# EAGLE library part EFM32TG108F4-QFN24T (library EFM32TG108F4-QFN24T)
ARM Microcontrollers - MCU 4k Flash 2k RAM No AES <https://componentsearchengine.com/Images/9/EFM32TG108F4-QFN24T.jpg> Source: Datasheet <https://www.silabs.com/documents/public/data-sheets/EFM32TG108.pdf>
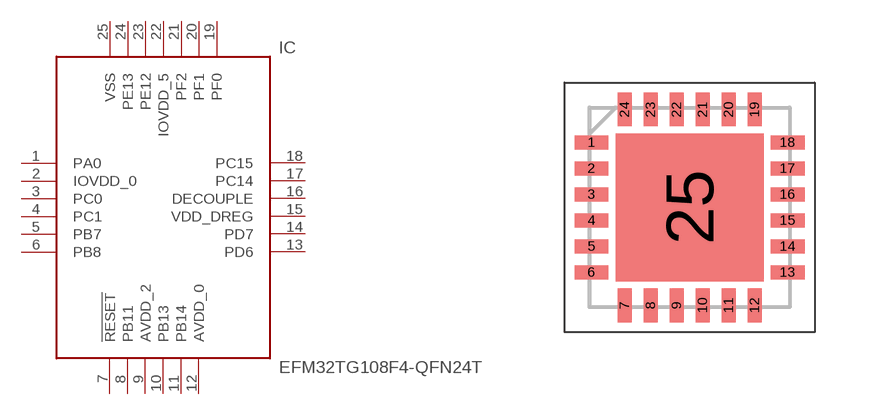
[diagram p0: symbol with the pads of QFN65P500X500X90-25N; footprint QFN65P500X500X90-25N]

Designator prefix IC

## EFM32TG108F4-QFN24T (Description: ARM Microcontrollers - MCU 4k Flash 2k RAM No AES; Height: 0.9mm; Manufacturer_Name: Silicon Labs; Manufacturer_Part_Number: EFM32TG108F4-QFN24T; Supplier_Name: RS)  [QFN65P500X500X90-25N]
1  PA0
2  IOVDD_0  pwr
3  PC0
4  PC1
5  PB7
6  PB8
7  !RESET  in
8  PB11
9  AVDD_2  pwr
10  PB13
11  PB14
12  AVDD_0  pwr
13  PD6
14  PD7
15  VDD_DREG  pwr
16  DECOUPLE  pwr
17  PC14
18  PC15
19  PF0
20  PF1
21  PF2
22  IOVDD_5  pwr
23  PE12
24  PE13
25  VSS  pwr

## Footprint QFN65P500X500X90-25N (pad centres in mm)
QFN24
smd 0.85 x 0.35: 1 -2.45,1.625; 2 -2.45,0.975; 3 -2.45,0.325; 4 -2.45,-0.325; 5 -2.45,-0.975; 6 -2.45,-1.625; 13 2.45,-1.625; 14 2.45,-0.975; 15 2.45,-0.325; 16 2.45,0.325; 17 2.45,0.975; 18 2.45,1.625
smd 0.35 x 0.85: 7 -1.625,-2.45; 8 -0.975,-2.45; 9 -0.325,-2.45; 10 0.325,-2.45; 11 0.975,-2.45; 12 1.625,-2.45; 19 1.625,2.45; 20 0.975,2.45; 21 0.325,2.45; 22 -0.325,2.45; 23 -0.975,2.45; 24 -1.625,2.45
smd 3.7 x 3.7: 25 0,0